# Altium schematic symbol library Cap0603.SchLib: 4 symbols
Pins are listed as number, name and electrical type; pins without a type are passive.

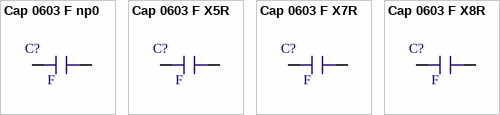
[diagram p0: symbols Cap 0603 F np0 to Cap 0603 F X8R]

## Cap 0603 F np0
designator C?  value F  (hidden comment: *)
Ceramic capacitor 0805 V np0 % μF; Type: 0603; Dielectric: np0; Tolerance: *; Voltage: *
footprint CAP0603
pins: 1, 2

## Cap 0603 F X5R
designator C?  value F  (hidden comment: *)
Ceramic capacitor 0805 V np0 % uF; Dielectric: X5R; Type: 0603; Tolerance: *; Voltage: *
footprint CAP0603
pins: 1, 2

## Cap 0603 F X7R
designator C?  value F  (hidden comment: *)
Ceramic capacitor 0805 V np0 % μF; Dielectric: X7R; Type: 0603; Tolerance: *; Voltage: *
footprint CAP0603
pins: 1, 2

## Cap 0603 F X8R
designator C?  value F  (hidden comment: *)
Ceramic capacitor 0805 V np0 % μF; Dielectric: X8R; Type: 0603; Tolerance: *; Voltage: *
footprint CAP0603
pins: 1, 2